# Altium schematic symbol library OPTOISOLATOR.SchLib: 2 symbols
Pins are listed as number, name and electrical type; pins without a type are passive.

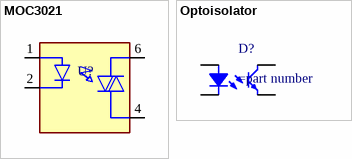
[diagram p0: symbols MOC3021 to Optoisolator]

## MOC3021
designator U?
pins: 1 ANODE, 2 CATODE, 4 MAIN_TERM2, 6 MAIN_TERM1

## Optoisolator
designator D?
pins: 1, 2, 3, 4